# EAGLE library part FC5-15-* (library NewSDR)
Samtec Flat Flexible Cable Socket - 15 Position
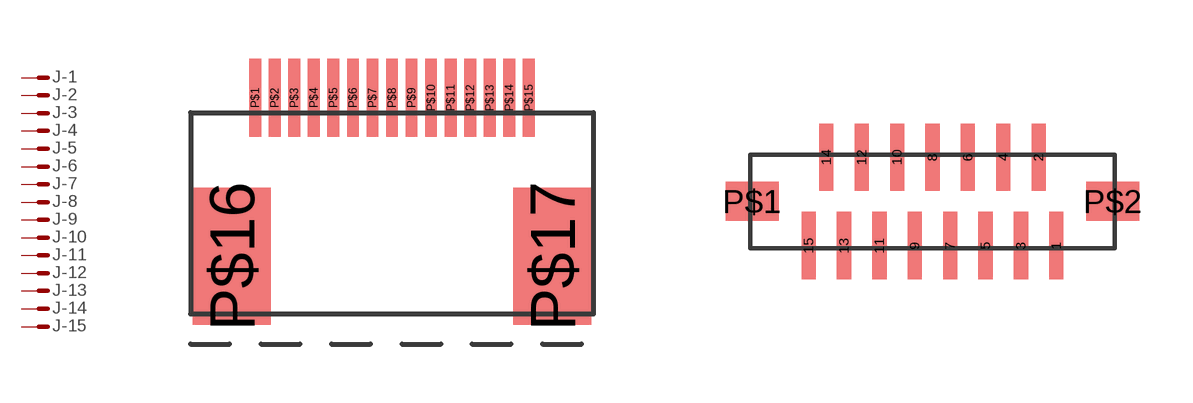
[diagram p214: symbol with the pads of FC5-15-02; footprints FC5-15-02, FC5-15-01]

Designator prefix J; gates -1=M -2=M -3=M -4=M -5=M -6=M -7=M -8=M -9=M -10=M -11=M -12=M -13=M -14=M -15=M

## FC5-15-02-T-WT  [FC5-15-02]
P$1  -1:M  pas
P$2  -2:M  pas
P$3  -3:M  pas
P$4  -4:M  pas
P$5  -5:M  pas
P$6  -6:M  pas
P$7  -7:M  pas
P$8  -8:M  pas
P$9  -9:M  pas
P$10  -10:M  pas
P$11  -11:M  pas
P$12  -12:M  pas
P$13  -13:M  pas
P$14  -14:M  pas
P$15  -15:M  pas

## FC5-15-01-T-WT  [FC5-15-01]
1  -1:M  pas
2  -2:M  pas
3  -3:M  pas
4  -4:M  pas
5  -5:M  pas
6  -6:M  pas
7  -7:M  pas
8  -8:M  pas
9  -9:M  pas
10  -10:M  pas
11  -11:M  pas
12  -12:M  pas
13  -13:M  pas
14  -14:M  pas
15  -15:M  pas

## Footprint FC5-15-02 (pad centres in mm)
Samtec Flat Flexible Cable Socket - 15 Position Right Angle
smd 0.3 x 2: P$1 -3.5,0; P$2 -3,0; P$3 -2.5,0; P$4 -2,0; P$5 -1.5,0; P$6 -1,0; P$7 -0.5,0; P$8 0,0; P$9 0.5,0; P$10 1,0; P$11 1.5,0; P$12 2,0; P$13 2.5,0; P$14 3,0; P$15 3.5,0
smd 2 x 3.5: P$16 -4.1,-4.05; P$17 4.1,-4.05

## Footprint FC5-15-01 (pad centres in mm)
Samtec Flat Flexible Cable Socket - 15 Position Vertical
smd 0.4 x 1.9: 1 3.5,-1.25; 2 3,1.25; 3 2.5,-1.25; 4 2,1.25; 5 1.5,-1.25; 6 1,1.25; 7 0.5,-1.25; 8 0,1.25; 9 -0.5,-1.25; 10 -1,1.25; 11 -1.5,-1.25; 12 -2,1.25; 13 -2.5,-1.25; 14 -3,1.25; 15 -3.5,-1.25
smd 1.5 x 1.1: P$1 -5.1,0; P$2 5.1,0